# EAGLE library part MC33272ADG (library on-semiconductor-01)
Single Supply,High Slew Rate,Low Input Offset Voltage,Operational Amplifiers
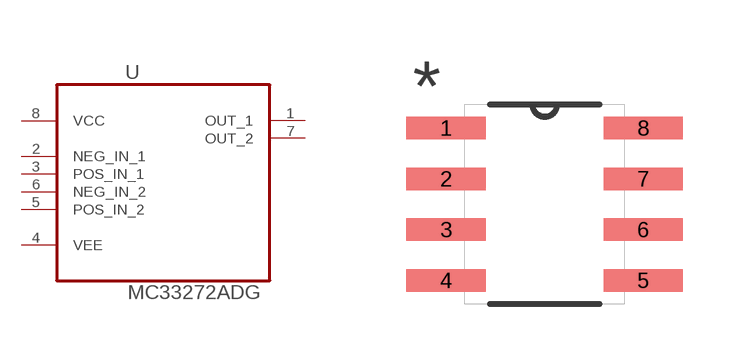
[diagram p375: symbol with the pads of SOIC127P600X175-8N; footprint SOIC127P600X175-8N]

Designator prefix U

## MC33272ADG (MPN: MC33272ADG; OC_FARNELL: 1651875; OC_NEWARK: 45J1186; PACKAGE: SOIC-8; SUPPLIER: Onsemiconductor)  [SOIC127P600X175-8N]
1  OUT_1  out
2  NEG_IN_1  in
3  POS_IN_1  in
4  VEE  pwr
5  POS_IN_2  in
6  NEG_IN_2  in
7  OUT_2  out
8  VCC  pwr

## Footprint SOIC127P600X175-8N (pad centres in mm)
smd 1.981 x 0.559: 1 -2.464,1.905; 2 -2.464,0.635; 3 -2.464,-0.635; 4 -2.464,-1.905; 5 2.464,-1.905; 6 2.464,-0.635; 7 2.464,0.635; 8 2.464,1.905